# Altium footprint library Connector.PcbLib: 58 footprints (part 2 of 4)
Each footprint in its own frame and in the unit in brackets; x right, y up, seen from the top. Pads: shape width x height; smd on the part's side, far side on the other; paste and mask are expansions set on the pad; w line width, h text height; cw(c..) or ccw(c..) is an arc to the next point about the centre after c.
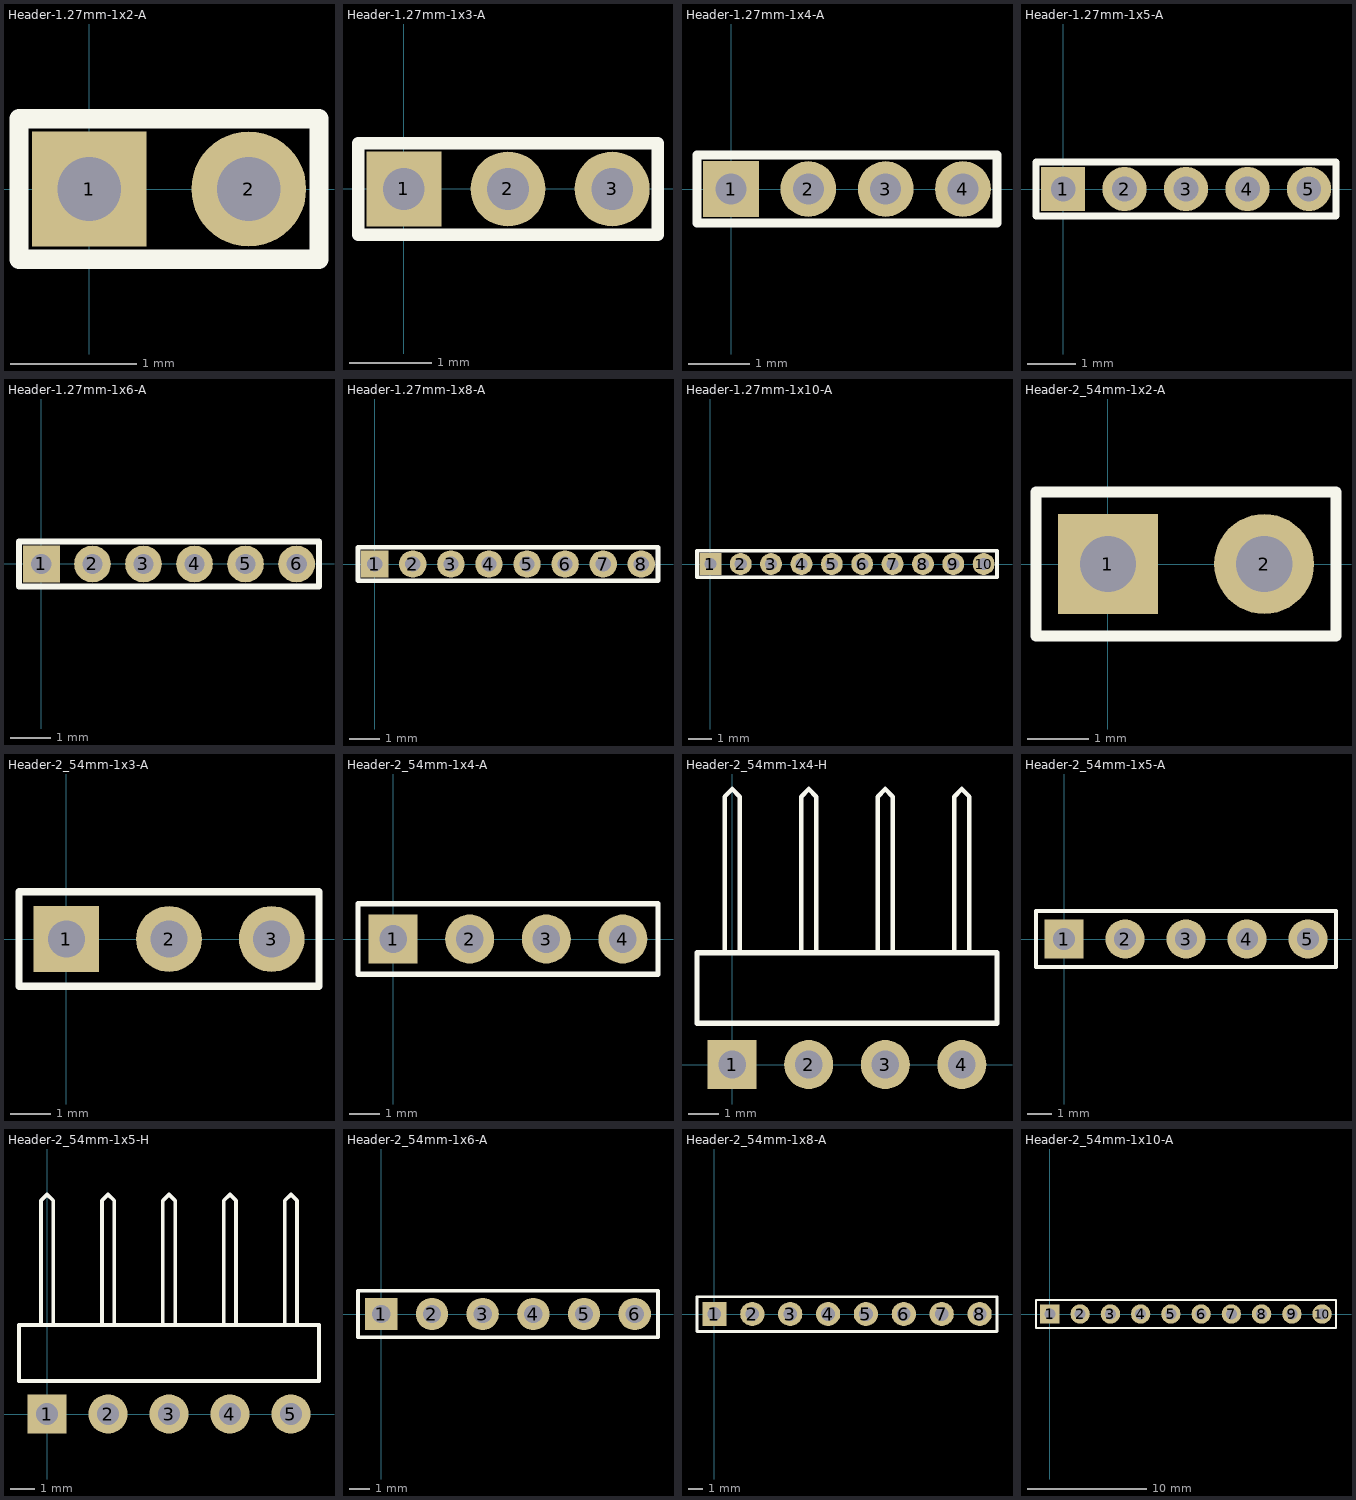
[diagram p1: the footprints below, top view; thin cyan lines are the x and y axes]

## Header-1.27mm-1x2-A [mil]
pads (2):
  rect 36x36 hole 20: 1(0,0)
  round 36 hole 20: 2(50,0)
Top Overlay:
  lines w6: -22,-22 72,-22 72,22 -22,22 -22,-22

## Header-1.27mm-1x3-A [mil]
pads (3):
  rect 36x36 hole 20: 1(0,0)
  round 36 hole 20: 2(50,0) 3(100,0)
Top Overlay:
  lines w6: -22,-22 -22,22 122,22 122,-22 -22,-22

## Header-1.27mm-1x4-A [mil]
pads (4):
  rect 36x36 hole 20: 1(0,0)
  round 36 hole 20: 2(50,0) 3(100,0) 4(150,0)
Top Overlay:
  lines w6: -22,-22 172,-22 172,22 -22,22 -22,-22

## Header-1.27mm-1x5-A [mil]
pads (5):
  rect 36x36 hole 20: 1(0,0)
  round 36 hole 20: 2(50,0) 3(100,0) 4(150,0) 5(200,0)
Top Overlay:
  lines w6: -22,-22 -22,22 222,22 222,-22 -22,-22

## Header-1.27mm-1x6-A [mil]
pads (6):
  rect 36x36 hole 20: 1(0,0)
  round 36 hole 20: 2(50,0) 3(100,0) 4(150,0) 5(200,0) 6(250,0)
Top Overlay:
  lines w6: -22,-22 272,-22 272,22 -22,22 -22,-22

## Header-1.27mm-1x8-A [mil]
pads (8):
  rect 36x36 hole 20: 1(0,0)
  round 36 hole 20: 2(50,0) 3(100,0) 4(150,0) 5(200,0) 6(250,0) 7(300,0) 8(350,0)
Top Overlay:
  lines w6: -22,-22 -22,22 372,22 372,-22 -22,-22

## Header-1.27mm-1x10-A [mil]
pads (10):
  rect 36x36 hole 20: 1(0,0)
  round 36 hole 20: 2(50,0) 3(100,0) 4(150,0) 5(200,0) 6(250,0) 7(300,0) 8(350,0) 9(400,0) 10(450,0)
Top Overlay:
  lines w6: -22,-22 472,-22 472,22 -22,22 -22,-22

## Header-2_54mm-1x2-A [mil]
pads (2):
  rect 64x64 hole 36: 1(0,0)
  round 64 hole 36: 2(100,0)
Top Overlay:
  lines w7: -46,-46 146,-46 146,46 -46,46 -46,-46

## Header-2_54mm-1x3-A [mil]
pads (3):
  rect 64x64 hole 36: 1(0,0)
  round 64 hole 36: 2(100,0) 3(200,0)
Top Overlay:
  lines w7: -46,-46 246,-46 246,46 -46,46 -46,-46

## Header-2_54mm-1x4-A [mil]
pads (4):
  rect 64x64 hole 36: 1(0,0)
  round 64 hole 36: 2(100,0) 3(200,0) 4(300,0)
Top Overlay:
  lines w7: -46,-46 346,-46 346,46 -46,46 -46,-46

## Header-2_54mm-1x4-H [mil] "Right-Angle"
pads (4):
  rect 64x64 hole 36: 1(0,0)
  round 64 hole 36: 2(100,0) 3(200,0) 4(300,0)
Top Overlay:
  lines w6: -10,150 -10,350 0,360 10,350 10,150 ; 90,150 90,350 100,360 110,350 110,150 ; 190,150 190,350 200,360 210,350 210,150 ; 290,150 290,350 300,360 310,350 310,150
  lines w7: -46,54 346,54 346,146 -46,146 -46,54

## Header-2_54mm-1x5-A [mil]
pads (5):
  rect 64x64 hole 36: 1(0,0)
  round 64 hole 36: 2(100,0) 3(200,0) 4(300,0) 5(400,0)
Top Overlay:
  lines w7: -46,-46 -46,46 446,46 446,-46 -46,-46

## Header-2_54mm-1x5-H [mil] "Right-Angle"
pads (5):
  rect 64x64 hole 36: 1(0,0)
  round 64 hole 36: 2(100,0) 3(200,0) 4(300,0) 5(400,0)
Top Overlay:
  lines w6: -10,150 -10,350 0,360 10,350 10,150 ; 90,150 90,350 100,360 110,350 110,150 ; 190,150 190,350 200,360 210,350 210,150 ; 290,150 290,350 300,360 310,350 310,150 ; 390,150 390,350 400,360 410,350 410,150
  lines w7: -46,54 446,54 446,146 -46,146 -46,54

## Header-2_54mm-1x6-A [mil]
pads (6):
  rect 64x64 hole 36: 1(0,0)
  round 64 hole 36: 2(100,0) 3(200,0) 4(300,0) 5(400,0) 6(500,0)
Top Overlay:
  lines w7: -46,-46 -46,46 546,46 546,-46 -46,-46

## Header-2_54mm-1x8-A [mil]
pads (8):
  rect 64x64 hole 36: 1(0,0)
  round 64 hole 36: 2(100,0) 3(200,0) 4(300,0) 5(400,0) 6(500,0) 7(600,0) 8(700,0)
Top Overlay:
  lines w7: -46,-46 -46,46 746,46 746,-46 -46,-46

## Header-2_54mm-1x10-A [mil]
pads (10):
  rect 64x64 hole 36: 1(0,0)
  round 64 hole 36: 2(100,0) 3(200,0) 4(300,0) 5(400,0) 6(500,0) 7(600,0) 8(700,0) 9(800,0) 10(900,0)
Top Overlay:
  lines w7: -46,-46 -46,46 946,46 946,-46 -46,-46